# EAGLE library part RGB_LCD (library Project_02)
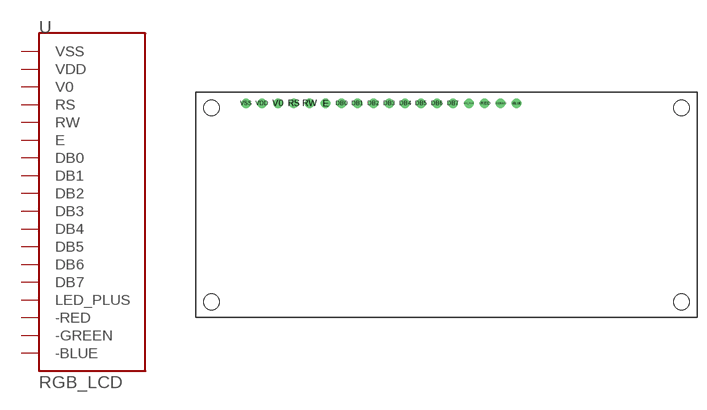
[diagram p2: symbol with the pads of RGB_LCD; footprint RGB_LCD]

Designator prefix -

## RGB_LCD  [RGB_LCD]
-BLUE  -BLUE
-GREEN  -GREEN
-RED  -RED
DB0  DB0
DB1  DB1
DB2  DB2
DB3  DB3
DB4  DB4
DB5  DB5
DB6  DB6
DB7  DB7
E  E
LED_PLUS  LED_PLUS
RS  RS
RW  RW
V0  V0
VDD  VDD
VSS  VSS

## Footprint RGB_LCD (pad centres in mm)
drill 1: -BLUE 51.18,34.25; -GREEN 48.64,34.25; -RED 46.1,34.25; DB0 23.24,34.25; DB1 25.78,34.25; DB2 28.32,34.25; DB3 30.86,34.25; DB4 33.4,34.25; DB5 35.94,34.25; DB6 38.48,34.25; DB7 41.02,34.25; E 20.7,34.25; LED_PLUS 43.56,34.25; RS 15.62,34.25; RW 18.16,34.25; V0 13.08,34.25; VDD 10.54,34.25; VSS 8,34.25
hole 2.5 at 2.5,2.5
hole 2.5 at 77.5,2.5
hole 2.5 at 2.5,33.5
hole 2.5 at 77.5,33.5